# EAGLE library part JST_S7B-ZR (library added_parts)
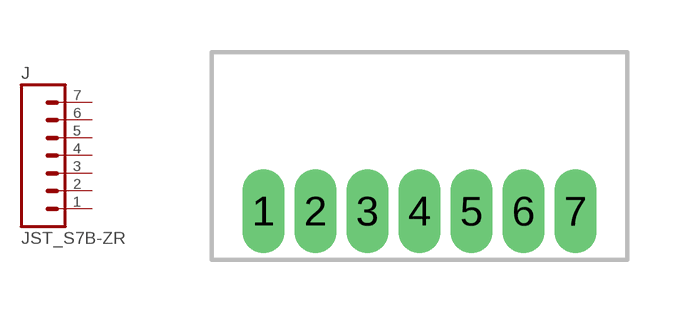
[diagram p35: symbol with the pads of JST_S7B-ZR; footprint JST_S7B-ZR]

Designator prefix J

## JST_S7B-ZR  [JST_S7B-ZR]
1  1  pas
2  2  pas
3  3  pas
4  4  pas
5  5  pas
6  6  pas
7  7  pas

## Footprint JST_S7B-ZR (pad centres in mm)
drill 0.7 pad 1.1 long: 1 -4.5,0; 2 -3,0; 3 -1.5,0; 4 0,0; 5 1.5,0; 6 3,0; 7 4.5,0